# EAGLE library part STM32F407VX (library STM32F407Vx_LQFP100)
STmicroelectronics Cortex M4 Series Typ: STM32F407Vx LQFP100 Copyright 2012 by Ersan Günes, Quantitec, info@quantitec.de
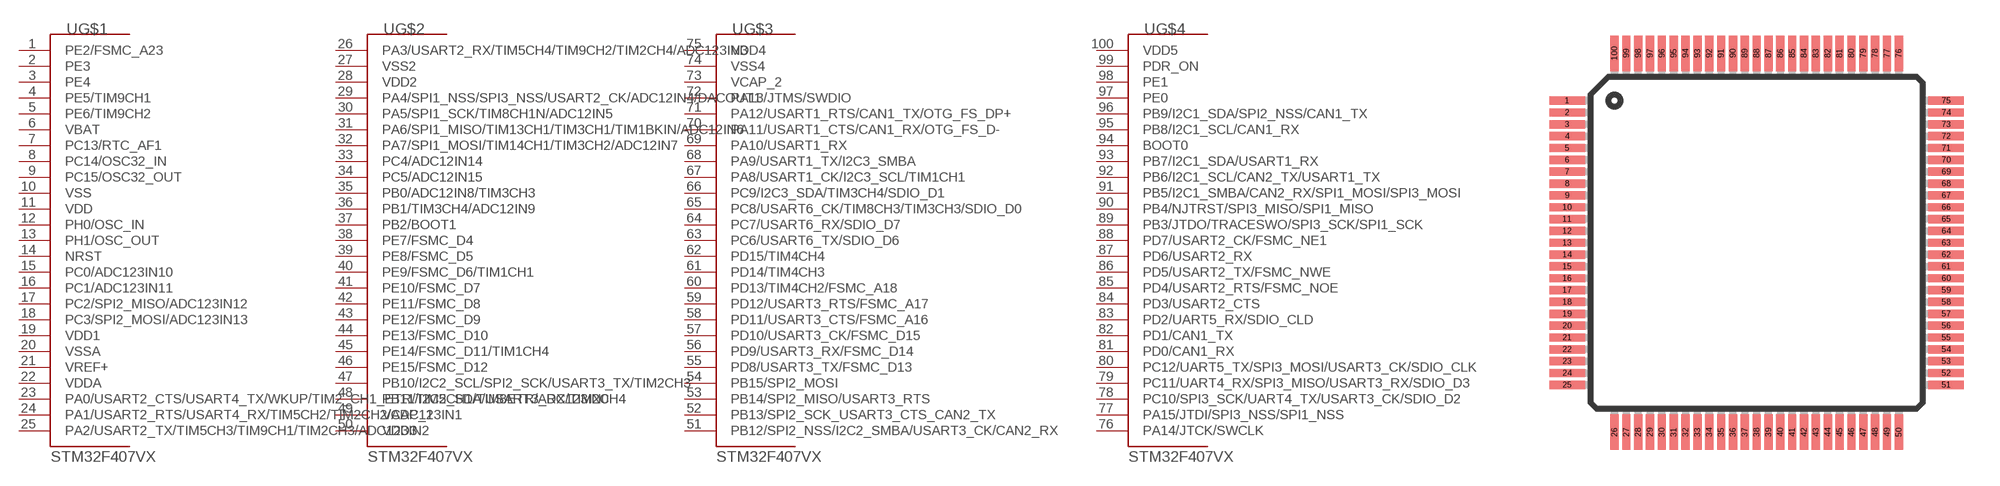
[diagram p0: symbol with the pads of LQFP100; footprint LQFP100]

Designator prefix -; gates G$1=SIDE1 G$2=SIDE2 G$3=SIDE3 G$4=SIDE4

## STM32F407VX  [LQFP100]
1  G$1:PE2/FSMC_A23
2  G$1:PE3
3  G$1:PE4
4  G$1:PE5/TIM9CH1
5  G$1:PE6/TIM9CH2
6  G$1:VBAT
7  G$1:PC13/RTC_AF1
8  G$1:PC14/OSC32_IN
9  G$1:PC15/OSC32_OUT
10  G$1:VSS
11  G$1:VDD
12  G$1:PH0/OSC_IN
13  G$1:PH1/OSC_OUT
14  G$1:NRST
15  G$1:PC0/ADC123IN10
16  G$1:PC1/ADC123IN11
17  G$1:PC2/SPI2_MISO/ADC123IN12
18  G$1:PC3/SPI2_MOSI/ADC123IN13
19  G$1:VDD1
20  G$1:VSSA
21  G$1:VREF+
22  G$1:VDDA
23  G$1:PA0/USART2_CTS/USART4_TX/WKUP/TIM2_CH1_ETR/TIM5CH1/TIM8ETR/ADC123IN0
24  G$1:PA1/USART2_RTS/USART4_RX/TIM5CH2/TIM2CH2/ADC123IN1
25  G$1:PA2/USART2_TX/TIM5CH3/TIM9CH1/TIM2CH3/ADC123IN2
26  G$2:PA3/USART2_RX/TIM5CH4/TIM9CH2/TIM2CH4/ADC123IN3
27  G$2:VSS2
28  G$2:VDD2
29  G$2:PA4/SPI1_NSS/SPI3_NSS/USART2_CK/ADC12IN4/DACOUT1
30  G$2:PA5/SPI1_SCK/TIM8CH1N/ADC12IN5
31  G$2:PA6/SPI1_MISO/TIM13CH1/TIM3CH1/TIM1BKIN/ADC12IN6
32  G$2:PA7/SPI1_MOSI/TIM14CH1/TIM3CH2/ADC12IN7
33  G$2:PC4/ADC12IN14
34  G$2:PC5/ADC12IN15
35  G$2:PB0/ADC12IN8/TIM3CH3
36  G$2:PB1/TIM3CH4/ADC12IN9
37  G$2:PB2/BOOT1
38  G$2:PE7/FSMC_D4
39  G$2:PE8/FSMC_D5
40  G$2:PE9/FSMC_D6/TIM1CH1
41  G$2:PE10/FSMC_D7
42  G$2:PE11/FSMC_D8
43  G$2:PE12/FSMC_D9
44  G$2:PE13/FSMC_D10
45  G$2:PE14/FSMC_D11/TIM1CH4
46  G$2:PE15/FSMC_D12
47  G$2:PB10/I2C2_SCL/SPI2_SCK/USART3_TX/TIM2CH3
48  G$2:PB11/I2C2_SDA/USART3_RX/TIM2CH4
49  G$2:VCAP_1
50  G$2:VDD3
51  G$3:PB12/SPI2_NSS/I2C2_SMBA/USART3_CK/CAN2_RX
52  G$3:PB13/SPI2_SCK_USART3_CTS_CAN2_TX
53  G$3:PB14/SPI2_MISO/USART3_RTS
54  G$3:PB15/SPI2_MOSI
55  G$3:PD8/USART3_TX/FSMC_D13
56  G$3:PD9/USART3_RX/FSMC_D14
57  G$3:PD10/USART3_CK/FSMC_D15
58  G$3:PD11/USART3_CTS/FSMC_A16
59  G$3:PD12/USART3_RTS/FSMC_A17
60  G$3:PD13/TIM4CH2/FSMC_A18
61  G$3:PD14/TIM4CH3
62  G$3:PD15/TIM4CH4
63  G$3:PC6/USART6_TX/SDIO_D6
64  G$3:PC7/USART6_RX/SDIO_D7
65  G$3:PC8/USART6_CK/TIM8CH3/TIM3CH3/SDIO_D0
66  G$3:PC9/I2C3_SDA/TIM3CH4/SDIO_D1
67  G$3:PA8/USART1_CK/I2C3_SCL/TIM1CH1
68  G$3:PA9/USART1_TX/I2C3_SMBA
69  G$3:PA10/USART1_RX
70  G$3:PA11/USART1_CTS/CAN1_RX/OTG_FS_D-
71  G$3:PA12/USART1_RTS/CAN1_TX/OTG_FS_DP+
72  G$3:PA13/JTMS/SWDIO
73  G$3:VCAP_2
74  G$3:VSS4
75  G$3:VDD4
76  G$4:PA14/JTCK/SWCLK
77  G$4:PA15/JTDI/SPI3_NSS/SPI1_NSS
78  G$4:PC10/SPI3_SCK/UART4_TX/USART3_CK/SDIO_D2
79  G$4:PC11/UART4_RX/SPI3_MISO/USART3_RX/SDIO_D3
80  G$4:PC12/UART5_TX/SPI3_MOSI/USART3_CK/SDIO_CLK
81  G$4:PD0/CAN1_RX
82  G$4:PD1/CAN1_TX
83  G$4:PD2/UART5_RX/SDIO_CLD
84  G$4:PD3/USART2_CTS
85  G$4:PD4/USART2_RTS/FSMC_NOE
86  G$4:PD5/USART2_TX/FSMC_NWE
87  G$4:PD6/USART2_RX
88  G$4:PD7/USART2_CK/FSMC_NE1
89  G$4:PB3/JTDO/TRACESWO/SPI3_SCK/SPI1_SCK
90  G$4:PB4/NJTRST/SPI3_MISO/SPI1_MISO
91  G$4:PB5/I2C1_SMBA/CAN2_RX/SPI1_MOSI/SPI3_MOSI
92  G$4:PB6/I2C1_SCL/CAN2_TX/USART1_TX
93  G$4:PB7/I2C1_SDA/USART1_RX
94  G$4:BOOT0
95  G$4:PB8/I2C1_SCL/CAN1_RX
96  G$4:PB9/I2C1_SDA/SPI2_NSS/CAN1_TX
97  G$4:PE0
98  G$4:PE1
99  G$4:PDR_ON
100  G$4:VDD5

## Footprint LQFP100 (pad centres in mm)
smd 1.5 x 0.35: 1 -8,6; 2 -8,5.5; 3 -8,5; 4 -8,4.5; 5 -8,4; 6 -8,3.5; 7 -8,3; 8 -8,2.5; 9 -8,2; 10 -8,1.5; 11 -8,1; 12 -8,0.5; 13 -8,0; 14 -8,-0.5; 15 -8,-1; 16 -8,-1.5; 17 -8,-2; 18 -8,-2.5; 19 -8,-3; 20 -8,-3.5; 21 -8,-4; 22 -8,-4.5; 23 -8,-5; 24 -8,-5.5; 25 -8,-6; 51 8,-6; 52 8,-5.5; 53 8,-5; 54 8,-4.5; 55 8,-4; 56 8,-3.5; 57 8,-3; 58 8,-2.5; 59 8,-2; 60 8,-1.5; 61 8,-1; 62 8,-0.5; 63 8,0; 64 8,0.5; 65 8,1; 66 8,1.5; 67 8,2; 68 8,2.5; 69 8,3; 70 8,3.5; 71 8,4; 72 8,4.5; 73 8,5; 74 8,5.5; 75 8,6
smd 0.35 x 1.5: 26 -6,-8; 27 -5.5,-8; 28 -5,-8; 29 -4.5,-8; 30 -4,-8; 31 -3.5,-8; 32 -3,-8; 33 -2.5,-8; 34 -2,-8; 35 -1.5,-8; 36 -1,-8; 37 -0.5,-8; 38 0,-8; 39 0.5,-8; 40 1,-8; 41 1.5,-8; 42 2,-8; 43 2.5,-8; 44 3,-8; 45 3.5,-8; 46 4,-8; 47 4.5,-8; 48 5,-8; 49 5.5,-8; 50 6,-8; 76 6,8; 77 5.5,8; 78 5,8; 79 4.5,8; 80 4,8; 81 3.5,8; 82 3,8; 83 2.5,8; 84 2,8; 85 1.5,8; 86 1,8; 87 0.5,8; 88 0,8; 89 -0.5,8; 90 -1,8; 91 -1.5,8; 92 -2,8; 93 -2.5,8; 94 -3,8; 95 -3.5,8; 96 -4,8; 97 -4.5,8; 98 -5,8; 99 -5.5,8; 100 -6,8